# EAGLE library part LTC2955XTS8 (library Public)
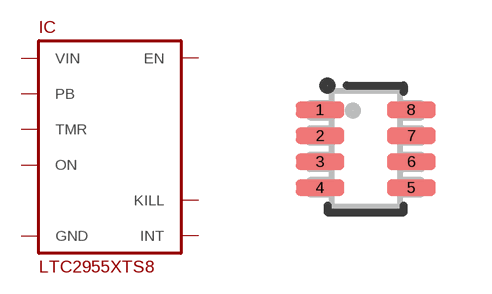
[diagram p135: symbol with the pads of SOT23-8; footprint SOT23-8]

Designator prefix IC

## LTC2955XTS8  [SOT23-8]
1  ON
2  KILL
3  TMR
4  GND
5  PB
6  VIN
7  EN
8  INT

## Footprint SOT23-8 (pad centres in mm)
smd 1.219 x 0.406: 1 -1.143,0.975; 2 -1.143,0.325; 3 -1.143,-0.325; 4 -1.143,-0.975; 5 1.143,-0.975; 6 1.143,-0.325; 7 1.143,0.325; 8 1.143,0.975